# Altium footprint library Audio.PcbLib: 2 footprints
Each footprint in its own frame and in the unit in brackets; x right, y up, seen from the top. Pads: shape width x height; smd on the part's side, far side on the other; paste and mask are expansions set on the pad; w line width, h text height; cw(c..) or ccw(c..) is an arc to the next point about the centre after c.
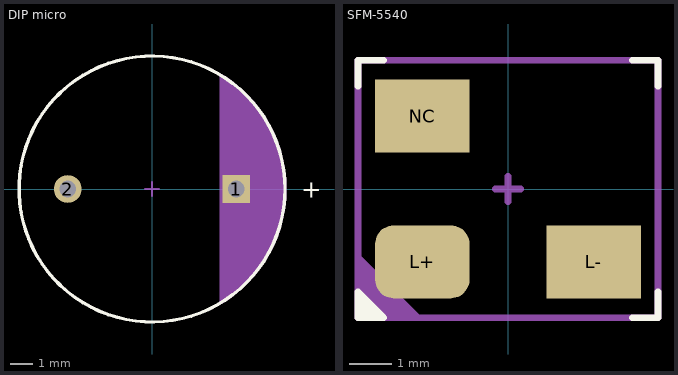
[diagram p0: the footprints below, top view; thin cyan lines are the x and y axes]

## DIP micro [mm]
pads (2):
  rect 1.25x1.25 hole 0.75 paste-1000 mask+0: 1(3.8,0)
  round 1.25 hole 0.75 paste-1000 mask+0: 2(-3.8,0)
Top Overlay:
  circle w0.153: c0,0 r6
  text "+" at 6.733,-0.4 h0.8
Top Assembly:
  circle w0.1: c0,0 r6
  region: 3.067,-5.138 3.063,-5.135 3.057,-5.126 3.052,-5.116 3.05,-5.105 3.05,-5.1 3.05,5.1 3.05,5.105 3.052,5.116 3.057,5.126 3.063,5.135 3.067,5.138 3.07,5.15 3.086,5.169 3.108,5.178 3.132,5.176 3.143,5.17 3.474,4.969 4.08,4.484 4.62,3.926 5.083,3.304 5.464,2.628 5.755,1.908 5.951,1.158 6.05,0.388 6.05,0 6.05,-0.388 5.951,-1.158 5.755,-1.908 5.464,-2.628 5.083,-3.304 4.62,-3.926 4.08,-4.484 3.474,-4.969 3.143,-5.17 3.132,-5.176 3.108,-5.178 3.086,-5.169 3.07,-5.15
  text "'.Designator'" at -4.532,-0.333 h0.8
Top Courtyard (Mech6):
  circle w0.1: c0,0 r6
  lines w0.1: -0.3,0 0.3,0 ; 0,-0.3 0,0.3
3D body "Speak_Multicomp_Pro_MCKPX-G1203A-K4056_eec.STEP": height 9.5, standoff -4, extent -6,-6 6.396,6

## SFM-5540 [mm]
pads (3):
  rrect50% 2.2x1.7 smd: L+(-2,-1.7)
  rect 2.2x1.7 smd: L-(2,-1.7) NC(-2,1.7)
Top Overlay:
  region: -3.5,-2.4 -3.5,-3 -2.9,-3
  lines w0.153: -3.5,2.4 -3.5,3 -2.9,3 ; 2.9,-3 3.5,-3 3.5,-2.4 ; 2.9,3 3.5,3 3.5,2.4 ; -3.5,-3 -3.5,-2.4 -2.9,-3 -3.5,-3
Top Assembly:
  region: -3.5,-3 -3.5,-1.5 -2,-3
  lines w0.1: -3.5,-3 3.5,-3 3.5,3 -3.5,3 -3.5,-3
  text "'.Designator'" at -4.532,-0.333 h0.8
Top Courtyard (Mech6):
  lines w0.153: -0.3,0 0.3,0 ; 0,-0.3 0,0.3 ; -3.5,-3 3.5,-3 3.5,3 -3.5,3 -3.5,-3
3D body "IC3_SFM-5540-03A_ESE.step": height 3.51, standoff 0, extent -2.756,-2.756 2.756,2.756